# EAGLE library part L6390 (library master_library)
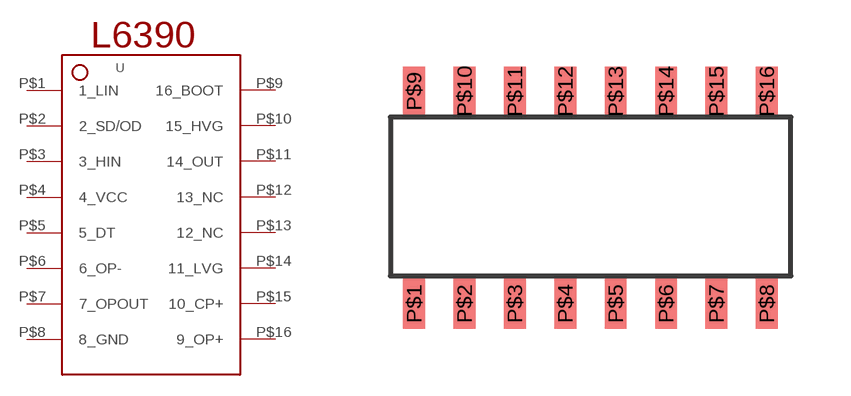
[diagram p5: symbol with the pads of SO-16NARROW; footprint SO-16NARROW]

Designator prefix -

## L6390SO-16NARRROW  [SO-16NARROW]
P$1  1_LIN
P$2  2_SD/OD
P$3  3_HIN
P$4  4_VCC
P$5  5_DT
P$6  6_OP-
P$7  7_OPOUT
P$8  8_GND
P$9  16_BOOT
P$10  15_HVG
P$11  14_OUT
P$12  13_NC
P$13  12_NC
P$14  11_LVG
P$15  10_CP+
P$16  9_OP+

## Footprint SO-16NARROW (pad centres in mm)
smd 0.55 x 1.25: P$1 0,0; P$2 1.27,0; P$3 2.54,0; P$4 3.81,0; P$5 5.08,0; P$6 6.35,0; P$7 7.62,0; P$8 8.89,0; P$9 0,5.35; P$10 1.27,5.35; P$11 2.54,5.35; P$12 3.81,5.35; P$13 5.08,5.35; P$14 6.35,5.35; P$15 7.62,5.35; P$16 8.89,5.35